# Altium schematic symbol library PIR Sensor.SchLib: 1 symbol
Pins are listed as number, name and electrical type; pins without a type are passive.

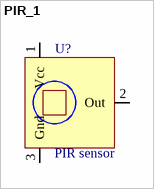
[diagram p0: symbol PIR_1]

## PIR_1
designator U?, comment PIR sensor
footprint PIR sensor
pins: 1 Vcc, 2 Out, 3 Gnd